# EAGLE library part HD-A103 (library LITTLEBITS140915)
LED DISPLAY 1-character 7 segment, decimal point right
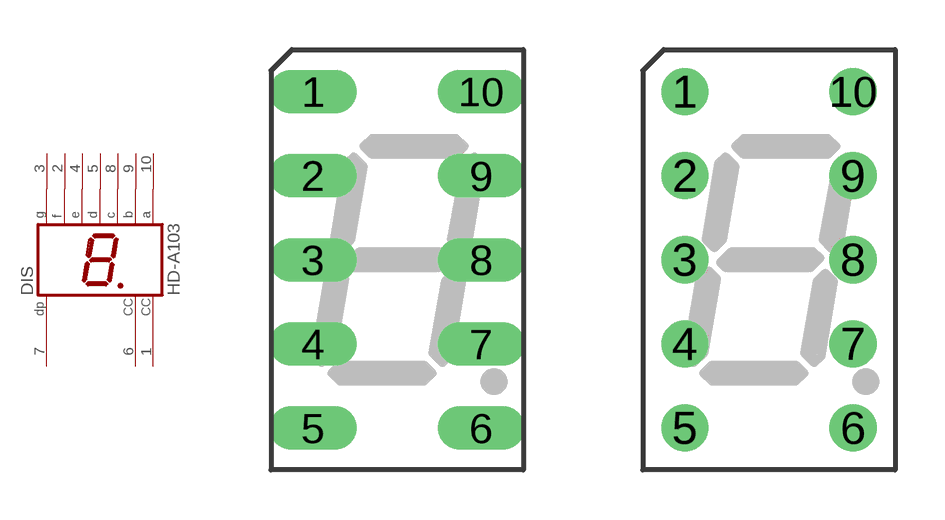
[diagram p27: symbol with the pads of HDSP-A; footprints HDSP-A, HDSP-A-SMALLPADS]

Designator prefix DIS

## HD-A103  [HDSP-A]
1  CC  pas
2  F  pas
3  G  pas
4  E  pas
5  D  pas
6  CC  pas
7  DP  pas
8  C  pas
9  B  pas
10  A  pas

## HD-A103HDSP-A-SMALLPADS  [HDSP-A-SMALLPADS]
1  A  pas
2  B  pas
3  C  pas
4  CC  pas
5  CC  pas
6  D  pas
7  DP  pas
8  E  pas
9  F  pas
10  G  pas

## Footprint HDSP-A (pad centres in mm)
LED DISPLAY 8-mm 1 character 7 segment, decimal point right
drill 0.813 long: 1 -2.54,5.08; 2 -2.54,2.54; 3 -2.54,0; 4 -2.54,-2.54; 5 -2.54,-5.08; 6 2.54,-5.08; 7 2.54,-2.54; 8 2.54,0; 9 2.54,2.54; 10 2.54,5.08

## Footprint HDSP-A-SMALLPADS (pad centres in mm)
drill 0.813 pad 1.422: 1 0.889,13.005; 2 0.889,10.465; 3 0.889,7.925; 4 0.889,5.385; 5 0.889,2.845; 6 5.969,2.845; 7 5.969,5.385; 8 5.969,7.925; 9 5.969,10.465; 10 5.969,13.005